# Altium footprint library LYDZ.PcbLib: 231 footprints (part 1 of 15)
Each footprint in its own frame and in the unit in brackets; x right, y up, seen from the top. Pads: shape width x height; smd on the part's side, far side on the other; paste and mask are expansions set on the pad; w line width, h text height; cw(c..) or ccw(c..) is an arc to the next point about the centre after c.
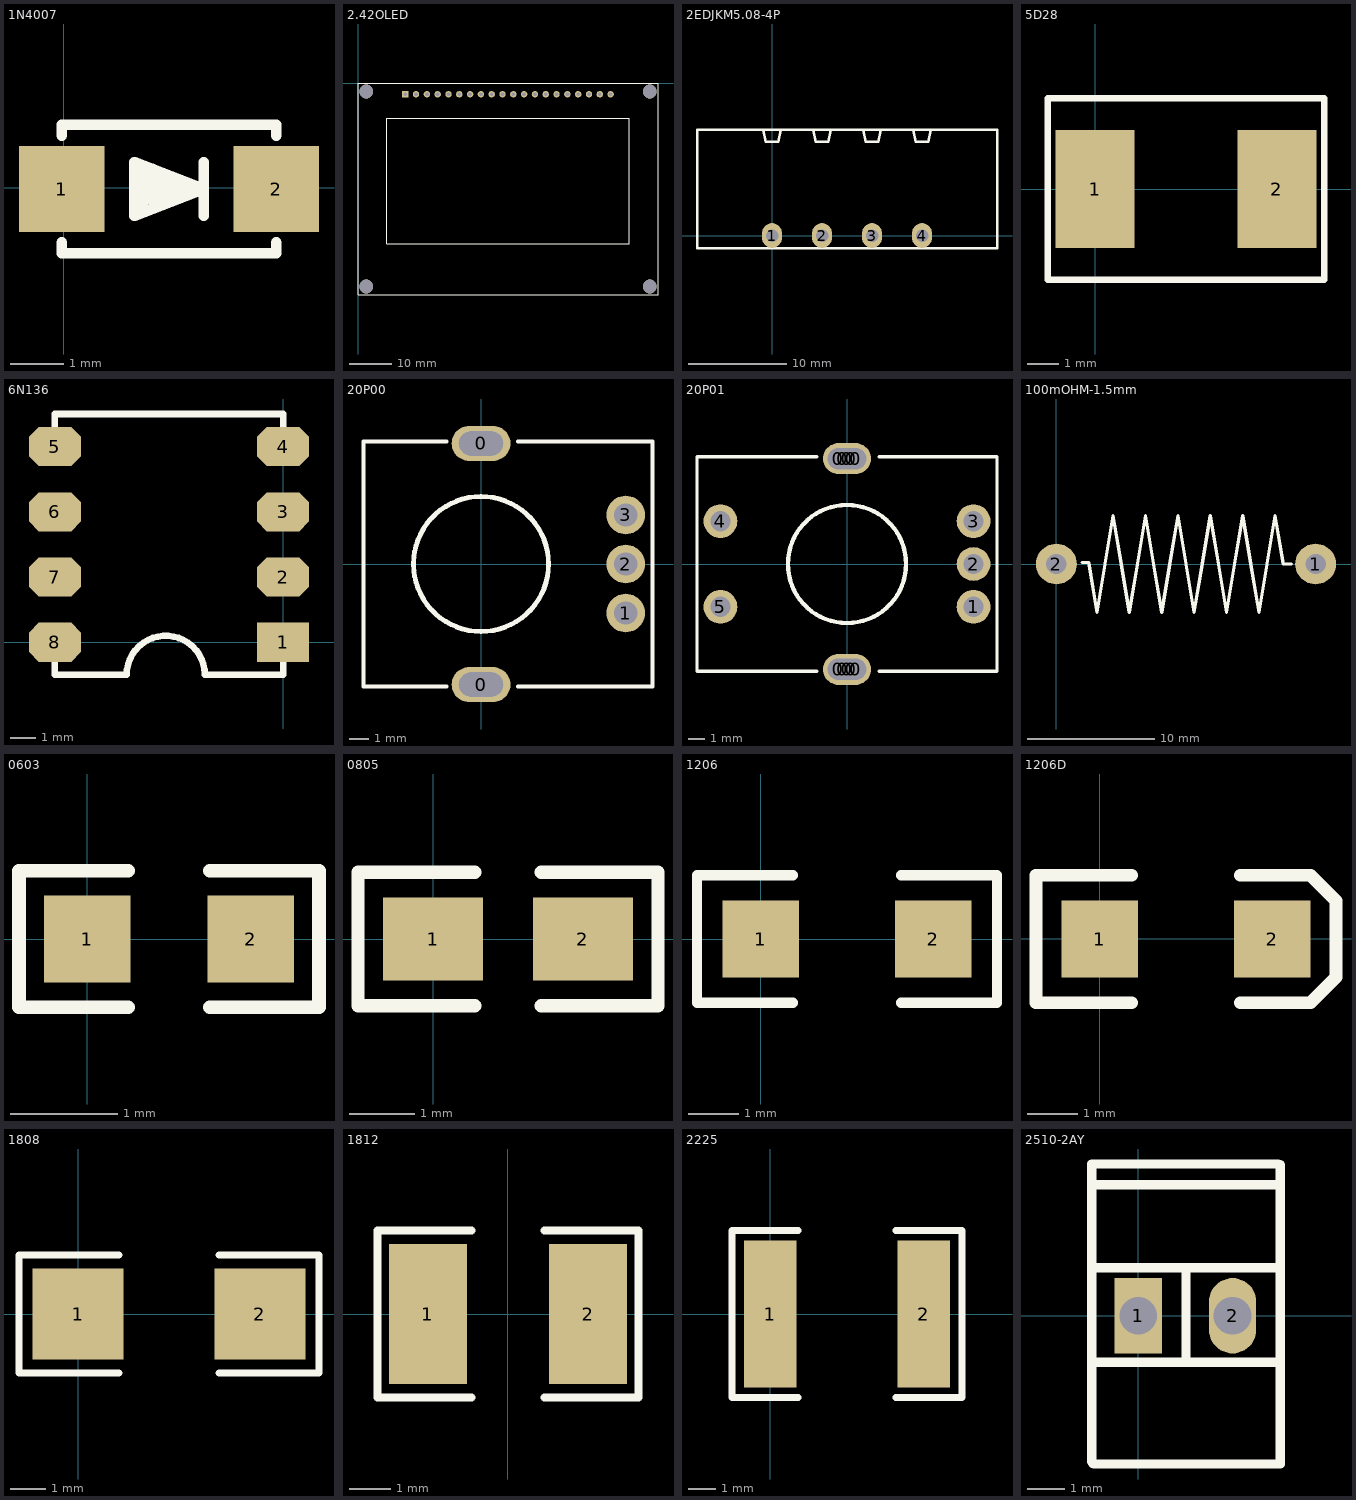
[diagram p0: the footprints below, top view; thin cyan lines are the x and y axes]

## 1N4007 [mm]
pads (2):
  rect 1.6x1.6 smd: 1(-0.038,-0.025) 2(3.962,-0.025)
Top Overlay:
  lines w0.2: -0.038,-1.025 -0.038,-1.225 3.962,-1.225 3.962,-1.025 ; -0.038,0.975 -0.038,1.175 3.962,1.175 3.962,0.975 ; 2.612,-0.525 2.612,0.475 ; 1.312,-0.525 2.612,-0.025 1.312,0.475 1.312,-0.525
  lines w0.203: 1.473,-0.381 1.473,0.403 1.499,0.403 ; 1.651,0.344 1.651,-0.254 2.311,0.025 1.778,0.152 1.803,-0.102 1.981,0.051

## 2.42OLED [mm]
pads (20):
  rect 1.5x1.5 hole 0.9: 1(11.1,-2.54)
  round 1.5 hole 0.9: 2(13.64,-2.54) 3(16.18,-2.54) 4(18.72,-2.54) 5(21.26,-2.54) 6(23.8,-2.54) 7(26.34,-2.54) 8(28.88,-2.54) 9(31.42,-2.54) 10(33.96,-2.54) 11(36.5,-2.54) 12(39.04,-2.54) 13(41.58,-2.54) 14(44.12,-2.54) 15(46.66,-2.54) 16(49.2,-2.54) 17(51.74,-2.54) 18(54.28,-2.54) 19(56.82,-2.54) 20(59.36,-2.54)
via 68.6,-47.7 diameter 3.2 hole 3.2
via 1.9,-47.7 diameter 3.2 hole 3.2
via 68.6,-1.9 diameter 3.2 hole 3.2
via 1.9,-1.9 diameter 3.2 hole 3.2
Top Overlay:
  lines w0.203: 0,-49.6 70.5,-49.6 70.5,0 0,0 0,-49.6 ; 6.73,-37.68 63.74,-37.68 63.74,-8.18 6.73,-8.18 6.73,-37.68

## 2EDJKM5.08-4P [mil]
pads (4):
  oval 80x100 hole 50: 1(0,0) 2(200,0) 3(400,0) 4(600,0)
Top Overlay:
  lines w10: -35,422.44 -25,375 25,375 35,422.44 ; 165,422.44 175,375 225,375 235,422.44 ; 365,422.44 375,375 425,375 435,422.44 ; 565,422.44 575,375 625,375 635,422.44 ; -300,-50 -300,422.44 900,422.44 900,-50 -300,-50

## 5D28 [mil]
pads (2):
  rect 100x150 smd: 1(0,0) 2(230,0)
Top Overlay:
  lines w8: -60,-115 290,-115 290,115 -60,115 -60,-115

## 6N136 [mil]
pads (8):
  rect 80x60 smd: 1(0,0)
  oct 80x60 smd: 2(0,100) 3(0,200) 4(0,300) 5(-350,300) 6(-350,200) 7(-350,100) 8(-350,0)
Top Overlay:
  lines w10: -350,-25 -350,-50 -240,-50 cw(c-180,-50) -120,-50 0,-50 0,-20 ; -350,325 -350,350 0,350 0,325

## 20P00 [mm]
pads (5):
  oval 3.048x1.829 hole 1.27 slot 2.286 at 0 deg: 0(0,-6.25) 0(0,6.25)
  round 2 hole 1.2: 1(7.5,-2.54) 2(7.5,0) 3(7.5,2.54)
Top Overlay:
  circle w0.254: c0,0 r3.5
  lines w0.203: -1.778,-6.35 -6.096,-6.35 -6.096,6.35 -1.778,6.35 ; 1.905,-6.35 8.89,-6.35 8.89,6.35 1.905,6.35

## 20P01 [mm]
pads (15):
  round 1.829 hole 1.27: 0(-0.508,-6.25) 0(-0.508,6.25) 0(-0.254,-6.25) 0(-0.254,6.25) 0(0,-6.25) 0(0,6.25) 0(0.254,-6.25) 0(0.254,6.25) 0(0.508,-6.25) 0(0.508,6.25)
  round 2 hole 1.2: 1(7.5,-2.54) 2(7.5,0) 3(7.5,2.54) 4(-7.5,2.54) 5(-7.5,-2.54)
Top Overlay:
  circle w0.254: c0,0 r3.5
  lines w0.203: -1.778,-6.35 -8.89,-6.35 -8.89,6.35 -1.778,6.35 ; 1.905,-6.35 8.89,-6.35 8.89,6.35 1.905,6.35

## 100mOHM-1.5mm [mm]
pads (2):
  round 3.2 hole 1.6: 1(20.32,0) 2(0,0)
Top Overlay:
  lines w0.254: 2.032,0.127 2.54,0.127 3.175,-3.81 4.445,3.81 5.08,0 5.715,-3.81 6.35,0 6.985,3.81 7.62,0 8.255,-3.81 8.89,0 9.525,3.81 10.16,0 10.795,-3.81 11.43,0 12.065,3.81 12.7,0 13.335,-3.81 13.97,0 14.605,3.81 15.24,0 15.875,-3.81 16.51,0 17.145,3.81 17.78,0 18.415,0

## 0603 [mil]
pads (2):
  rect 31.73x31.73 smd: 1(0,0) 2(60,0)
Top Overlay:
  lines w5: 15,-25 -25,-25 -25,25 15,25 ; 45,-25 85,-25 85,25 45,25

## 0805 [mil]
pads (2):
  rect 60x50 smd: 1(0,0) 2(90,0)
Top Overlay:
  lines w8: 25,-40 -45,-40 -45,40 25,40 ; 65,-40 135,-40 135,40 65,40

## 1206 [mil]
pads (2):
  rect 60x60 smd: 1(0,0) 2(135,0)
Top Overlay:
  lines w8: 25,-50 -50,-50 -50,50 25,50 ; 110,-50 185,-50 185,50 110,50

## 1206D [mil]
pads (2):
  rect 60x60 smd: 1(0,0) 2(135,0)
Top Overlay:
  lines w10: 25,-50 -50,-50 -50,50 25,50 ; 110,-50 165,-50 185,-30 185,30 165,50 110,50

## 1808 [mil]
pads (2):
  rect 100x100 smd: 1(0,0) 2(200,0)
Top Overlay:
  lines w8: 45,-65 -65,-65 -65,65 45,65 ; 155,-65 265,-65 265,65 155,65

## 1812 [mm] "Chip Capacitor; Body 4.5 x 3.2 mm (LxW typ)"
height 1.1
pads (2):
  rect 1.9x3.4 smd: 1(-1.95,0) 2(1.95,0)
Top Overlay:
  lines w0.2: -0.889,-2.032 -3.175,-2.032 -3.175,2.032 -0.889,2.032 ; 0.889,-2.032 3.175,-2.032 3.175,2.032 0.889,2.032

## 2225 [mm]
pads (2):
  rect 1.905x5.35 smd: 1(0,0) 2(5.588,0)
Top Overlay:
  lines w0.254: 1.016,-3.048 -1.397,-3.048 -1.397,3.048 1.016,3.048 ; 4.572,-3.048 6.985,-3.048 6.985,3.048 4.572,3.048

## 2510-2AY [mil]
pads (2):
  rect 50x80 hole 40: 1(0,0)
  oval 50x80 hole 40: 2(100,0)
Top Overlay:
  lines w10: -49.34,-155 -49.34,160 ; -49.34,160.83 148.66,160.83 ; -48.34,-156.17 -47.34,-157.17 148.66,-157.17 ; -48.34,138.83 145.66,138.83 ; 50.66,-49.17 50.66,50.83 ; 150.66,-157.17 150.66,160 ; -49.34,-49.17 -49.34,50.83 150.66,50.83 150.66,-49.17 -49.34,-49.17